# Altium footprint library RPI_0.PcbLib: 1 footprints
Each footprint in its own frame and in the unit in brackets; x right, y up, seen from the top. Pads: shape width x height; smd on the part's side, far side on the other; paste and mask are expansions set on the pad; w line width, h text height; cw(c..) or ccw(c..) is an arc to the next point about the centre after c.
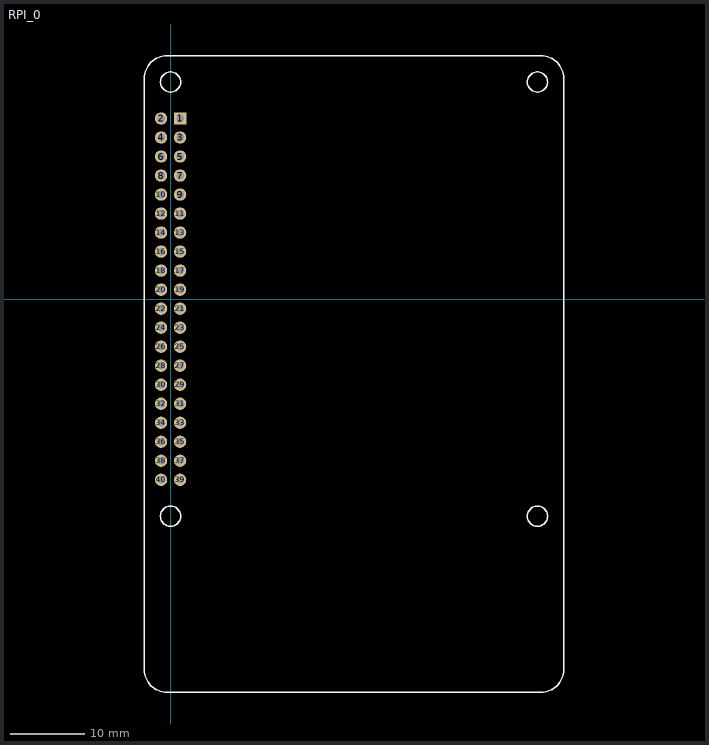
[diagram p0: the footprint, top view; thin cyan lines are the x and y axes]

## RPI_0 [mil] "Raspberry Pi"
pads (40):
  rect 65x65 hole 40: 1(50,950)
  round 65 hole 40: 2(-50,950) 3(50,850) 4(-50,850) 5(50,750) 6(-50,750) 7(50,650) 8(-50,650) 9(50,550) 10(-50,550) 11(50,450) 12(-50,450) 13(50,350) 14(-50,350) 15(50,250) 16(-50,250) 17(50,150) 18(-50,150) 19(50,50) 20(-50,50) 21(50,-50) 22(-50,-50) 23(50,-150) 24(-50,-150) 25(50,-250) 26(-50,-250) 27(50,-350) 28(-50,-350) 29(50,-450) 30(-50,-450) 31(50,-550) 32(-50,-550) 33(50,-650) 34(-50,-650) 35(50,-750) 36(-50,-750) 37(50,-850) 38(-50,-850) 39(50,-950) 40(-50,-950)
Top Overlay:
  circle w7.87: c0,1141.73 r53.15
  circle w7.87: c1929.13,1141.73 r53.15
  circle w7.87: c0,-1141.73 r53.15
  circle w7.87: c1929.13,-1141.73 r53.15
  lines w7.87: -137.8,-1948.82 ccw(c-19.68,-1948.82) -19.69,-2066.93 1948.82,-2066.93 ccw(c1948.82,-1948.82) 2066.93,-1948.82 2066.93,1161.42 ccw(c1948.82,1161.42) 1948.82,1279.53 -19.68,1279.53 ccw(c-19.68,1161.42) -137.8,1161.42 -137.8,-1948.82
3D body "socket_20x2_100mil.SLDPRT": height 328.74, standoff -127.95, extent -100,-1000.79 100,999.21